# EAGLE library part DIPSW-SPDT-5 (library BW-PassiveMechanical)
5x SPDT DIP switches
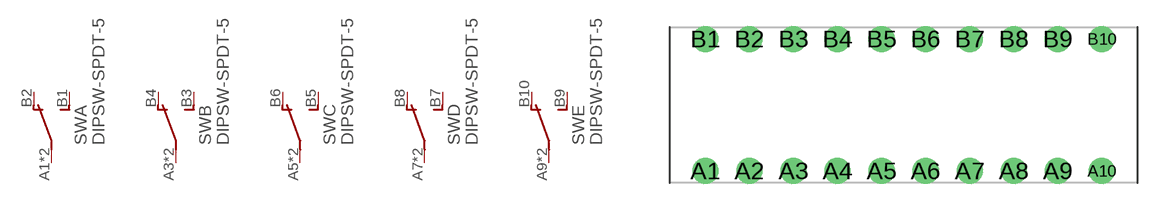
[diagram p2: symbol with the pads of DIPSW-10; footprint DIPSW-10]

Designator prefix SW; gates A=SWITCH-U B=SWITCH-U C=SWITCH-U D=SWITCH-U E=SWITCH-U

## DIPSW-SPDT-5  [DIPSW-10]
A1  A:P  pas
A2  A:P  pas
A3  B:P  pas
A4  B:P  pas
A5  C:P  pas
A6  C:P  pas
A7  D:P  pas
A8  D:P  pas
A9  E:P  pas
A10  E:P  pas
B1  A:S  pas
B2  A:O  pas
B3  B:S  pas
B4  B:O  pas
B5  C:S  pas
B6  C:O  pas
B7  D:S  pas
B8  D:O  pas
B9  E:S  pas
B10  E:O  pas

## Footprint DIPSW-10 (pad centres in mm)
drill 1: A1 -11.43,-3.81; A2 -8.89,-3.81; A3 -6.35,-3.81; A4 -3.81,-3.81; A5 -1.27,-3.81; A6 1.27,-3.81; A7 3.81,-3.81; A8 6.35,-3.81; A9 8.89,-3.81; A10 11.43,-3.81; B1 -11.43,3.81; B2 -8.89,3.81; B3 -6.35,3.81; B4 -3.81,3.81; B5 -1.27,3.81; B6 1.27,3.81; B7 3.81,3.81; B8 6.35,3.81; B9 8.89,3.81; B10 11.43,3.81